# EAGLE library part L6201 (library ST Microelectronics)
DMOS FULL BRIDGE DRIVER
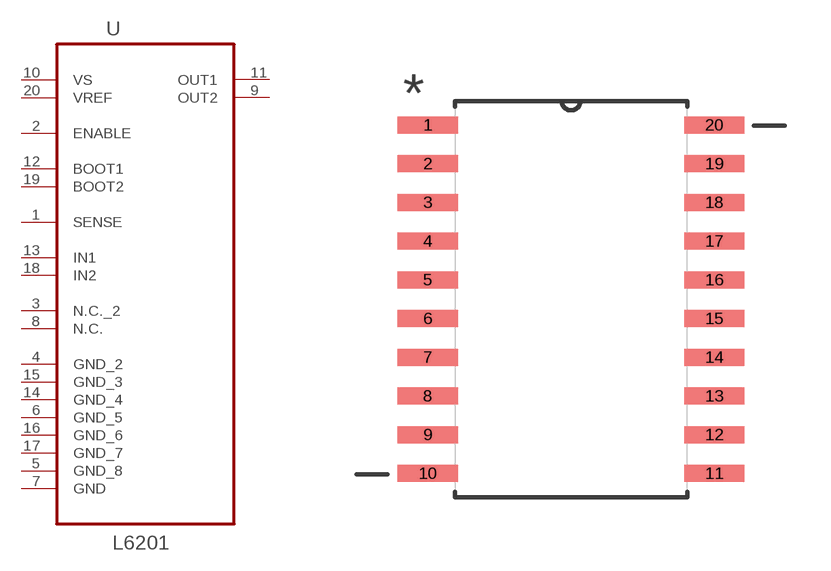
[diagram p44: symbol with the pads of SOIC127P1032X265-20N; footprint SOIC127P1032X265-20N]

Designator prefix U

## L6201 (MPN: L6201; OC_FARNELL: 1271290; OC_NEWARK: 89K0750; PACKAGE: SOIC-20; SUPPLIER: STMICROELECTRONICS)  [SOIC127P1032X265-20N]
1  SENSE  in
2  ENABLE  in
3  N.C._2  nc
4  GND_2  pas
5  GND_8  pas
6  GND_5  pas
7  GND  pas
8  N.C.  nc
9  OUT2  out
10  VS  pwr
11  OUT1  out
12  BOOT1  pas
13  IN1  in
14  GND_4  pas
15  GND_3  pas
16  GND_6  pas
17  GND_7  pas
18  IN2  nc
19  BOOT2  pas
20  VREF  in

## Footprint SOIC127P1032X265-20N (pad centres in mm)
smd 1.981 x 0.559: 1 -4.699,5.715; 2 -4.699,4.445; 3 -4.699,3.175; 4 -4.699,1.905; 5 -4.699,0.635; 6 -4.699,-0.635; 7 -4.699,-1.905; 8 -4.699,-3.175; 9 -4.699,-4.445; 10 -4.699,-5.715; 11 4.699,-5.715; 12 4.699,-4.445; 13 4.699,-3.175; 14 4.699,-1.905; 15 4.699,-0.635; 16 4.699,0.635; 17 4.699,1.905; 18 4.699,3.175; 19 4.699,4.445; 20 4.699,5.715